# EAGLE library part HR601680 (library schematic)
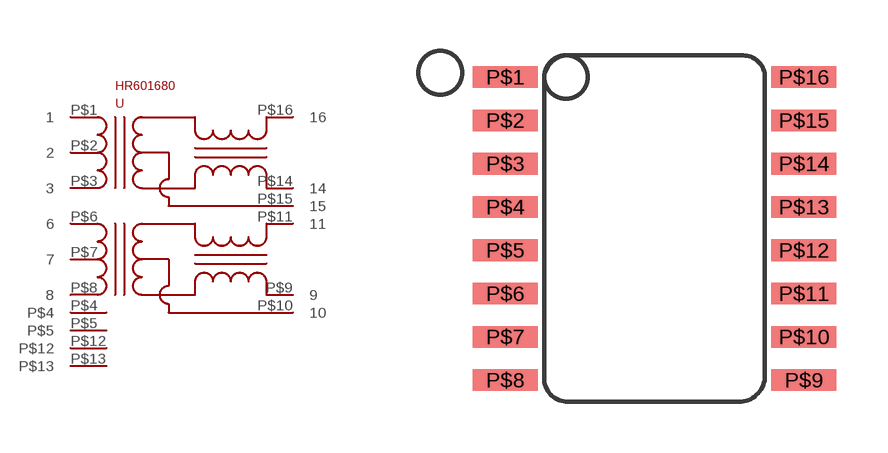
[diagram p20: symbol with the pads of SOIC-16; footprint SOIC-16]

Designator prefix -

## HR601680  [SOIC-16]
P$1  1
P$2  2
P$3  3
P$4  P$4
P$5  P$5
P$6  6
P$7  7
P$8  8
P$9  9
P$10  10
P$11  11
P$12  P$12
P$13  P$13
P$14  14
P$15  15
P$16  16

## Footprint SOIC-16 (pad centres in mm)
smd 1.905 x 0.635: P$1 -4.445,3.81; P$2 -4.445,2.54; P$3 -4.445,1.27; P$4 -4.445,0; P$5 -4.445,-1.27; P$6 -4.445,-2.54; P$7 -4.445,-3.81; P$8 -4.445,-5.08; P$9 4.318,-5.08; P$10 4.318,-3.81; P$11 4.318,-2.54; P$12 4.318,-1.27; P$13 4.318,0; P$14 4.318,1.27; P$15 4.318,2.54; P$16 4.318,3.81